# Altium schematic symbol library DCDC_CONV.SchLib: 1 symbol
Pins are listed as number, name and electrical type; pins without a type are passive.

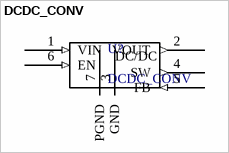
[diagram p0: symbol DCDC_CONV]

## DCDC_CONV
designator U?
DC-DC converter symbol
pins: 1 VIN (in), 2 VOUT (out), 3 GND (power), 4 SW (out), 5 FB (in), 6 EN (in), 7 PGND (power)
text: DC/DC